# Altium schematic symbol library ADAM LIBRARY.SCHLIB: 89 symbols (part 2 of 2)
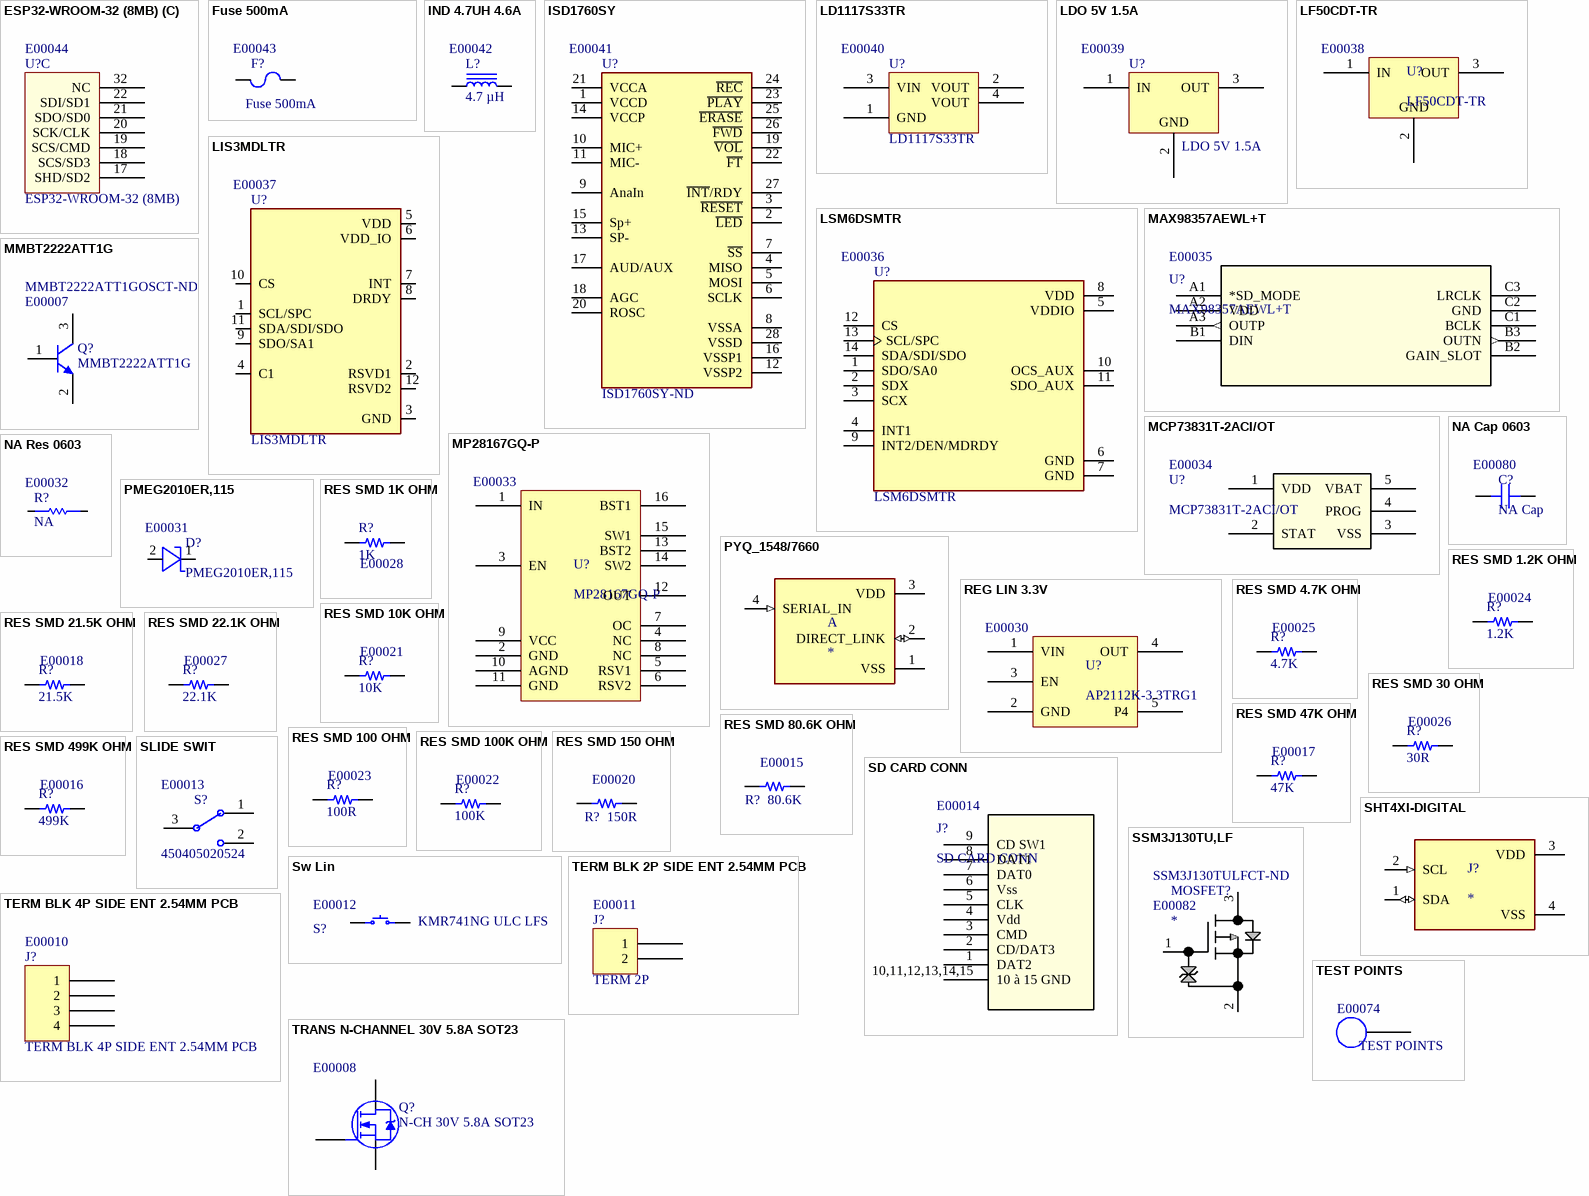
[diagram p3: symbols ESP32-WROOM-32 (8MB) to TRANS N-CHANNEL 30V 5.8A SOT23]

## RES SMD 10K OHM
designator R?, comment ADAM Inventory Number 1: E00021  (hidden comment: 10K)
RES SMD 10K OHM 1% 1/10W 0603; Manufacturer Part Number 1: RC0603FR-0710KL; Manufacturer: Rohm Semiconductor; Power (Watts): 0.25W, 1/4W; Temperature Coefficient: ±100ppm/°C; ComponentLink1Description: Datasheet; ComponentLink1URL: https://www.rohm.com/datasheet/ESR01MZPF/esr-e; ComponentLink2Description: DigiKey Link; ComponentLink2URL: https://www.digikey.com/en/products/detail/rohm-semiconductor/ESR03EZPF1002/1983429; Composition: Thick Film; Device Package: 0603 (1608 Metric); Features: Automotive AEC-Q200, Pulse Withstanding; Height - Seated (Max): 0.022" (0.55mm); LastUpdated: 2023-03-27 19:26:49; Lifecycle Status: Active; Minimum Order: 1; Number of Terminations: 2; Operating Temperature: -55°C ~ 155°C; Package / Case: 0603 (1608 Metric); Packaging: TapeAndReel; PartId: 5466; Part Status: Active; Price: 0.02; Ratings: AEC-Q200; Resistance: 10K; Series: ESR; Size / Dimension: 0.063" L x 0.031" W (1.60mm x 0.80mm); Supplier Device Package: 0603; Tolerance: ±1%; Supplier 1: Future Electronics; Supplier Part Number 1: 3349388; Value: 10K
footprint RES 0603
pins: 1, 2

## RES SMD 21.5K OHM
designator R?, comment ADAM Inventory Number 1: E00018  (hidden comment: 21.5K)
RES SMD 21.5K OHM 0.1% 1/5W 0603; Manufacturer: Panasonic Electronic Components; Manufacturer Part Number 1: CRCW0603321K5FKEA; Power (Watts): 0.2W, 1/5W; Temperature Coefficient: ±50ppm/°C; ComponentLink1Description: Datasheet; ComponentLink1URL: https://industrial.panasonic.com/cdbs/www-data/pdf/RDM0000/AOA0000C328.pdf; ComponentLink2Description: DigiKey Link; ComponentLink2URL: https://www.digikey.com/en/products/detail/panasonic-electronic-components/ERJ-PB3B2152V/6212904; Composition: Thick Film; Device Package: 0603 (1608 Metric); Features: Automotive AEC-Q200, Pulse Withstanding; Height - Seated (Max): 0.022" (0.55mm); LastUpdated: 2023-04-09 19:29:59; Lifecycle Status: Active; Minimum Order: 1; Number of Terminations: 2; Operating Temperature: -55°C ~ 155°C; Package / Case: 0603 (1608 Metric); Packaging: TapeAndReel; PartId: 9207; Part Status: Active; Price: 0.02; Ratings: AEC-Q200; Resistance: 21.5K; Series: ERJ-PB3; Size / Dimension: 0.063" L x 0.031" W (1.60mm x 0.80mm); Supplier Device Package: 0603; Tolerance: ±0.1%; Supplier 1: Mouser; Supplier Part Number 1: 71-CRCW0603-21.5K-E3; Value: 21.5K
footprint RES 0603
pins: 1, 2

## RES SMD 22.1K OHM
designator R?, comment ADAM Inventory Number 1: E00027  (hidden comment: 22.1K)
RES 22.1K OHM 1% 1/10W 0603; Manufacturer Part Number 1: RMCF0603FT22K1; Manufacturer: Stackpole Electronics Inc; Power (Watts): 0.1W, 1/10W; Temperature Coefficient: ±100ppm/°C; ComponentLink1Description: Datasheet; ComponentLink1URL: https://www.seielect.com/catalog/sei-rmcf_rmcp.pdf; ComponentLink2Description: DigiKey Link; ComponentLink2URL: https://www.digikey.com/en/products/detail/stackpole-electronics-inc/RMCF0603FT22K1/1760764; Composition: Thick Film; Device Package: 0603 (1608 Metric); Features: Automotive AEC-Q200; Height - Seated (Max): 0.022" (0.55mm); LastUpdated: 2023-03-27 19:26:47; Lifecycle Status: Active; Minimum Order: 1; Number of Terminations: 2; Operating Temperature: -55°C ~ 155°C; Package / Case: 0603 (1608 Metric); Packaging: CutTape; PartId: 6076; Part Status: Active; Price: 0.01; Ratings: AEC-Q200; Resistance: 22.1K; Series: RMCF; Size / Dimension: 0.061" L x 0.031" W (1.55mm x 0.80mm); Supplier 1: DigiKey; Supplier Part Number 1: RMCF0603FT22K1CT-ND; Supplier Device Package: 0603; Tolerance: ±1%; Value: 22.1K
footprint RES 0603
pins: 1, 2

## RES SMD 30 OHM
designator R?, comment ADAM Inventory Number 1: E00026  (hidden comment: 30R)
RES 30 OHM 1% 1/3W 0603; Manufacturer Part Number 1: SG73P1JTTD30R0F; Manufacturer: KOA Speer Electronics, Inc.; Power (Watts): 0.333W, 1/3W; Temperature Coefficient: ±200ppm/°C; ComponentLink1Description: Datasheet; ComponentLink1URL: https://www.koaspeer.com/pdfs/SG73P.pdf; ComponentLink2Description: DigiKey Link; ComponentLink2URL: https://www.digikey.com/en/products/detail/koa-speer-electronics-inc/SG73P1JTTD30R0F/10188343; Composition: Thick Film; Device Package: 0603 (1608 Metric); Features: Automotive AEC-Q200, Pulse Withstanding; Height - Seated (Max): 0.022" (0.55mm); LastUpdated: 2023-04-03 19:29:12; Lifecycle Status: Active; Minimum Order: 1; Number of Terminations: 2; Operating Temperature: -55°C ~ 155°C; Package / Case: 0603 (1608 Metric); Packaging: TapeAndReel; PartId: 62768; Part Status: Active; Price: 0.01; Ratings: AEC-Q200; Resistance: 30R; Series: SG73P; Size / Dimension: 0.063" L x 0.031" W (1.60mm x 0.80mm); Supplier 1: DigiKey; Supplier Part Number 1: 2019-SG73P1JTTD30R0FCT-ND; Supplier Device Package: 0603; Tolerance: ±1%; Value: 30R
footprint RES 0603
pins: 1, 2

## RES SMD 47K OHM
designator R?, comment ADAM Inventory Number 1: E00017  (hidden comment: 47K)
RES SMD 47K OHM 5% 1/4W 0603; Manufacturer Part Number 1: AC0603FR-0747KL; Manufacturer: Vishay Dale; Power (Watts): 0.25W, 1/4W; Temperature Coefficient: ±200ppm/°C; ComponentLink1Description: Datasheet; ComponentLink1URL: http://www.vishay.com/docs/20065/rcse3.pdf; ComponentLink2Description: DigiKey Link; ComponentLink2URL: https://www.digikey.com/en/products/detail/vishay-dale/RCS060347K0JNEA/5866965; Composition: Thick Film; Device Package: 0603 (1608 Metric); Features: Automotive AEC-Q200, Pulse Withstanding; Height - Seated (Max): 0.020" (0.50mm); LastUpdated: 2023-03-27 19:26:49; Lifecycle Status: Active; Minimum Order: 1; Number of Terminations: 2; Operating Temperature: -55°C ~ 155°C; Package / Case: 0603 (1608 Metric); Packaging: TapeAndReel; PartId: 5445; Part Status: Active; Price: 0.02; Ratings: AEC-Q200; Resistance: 47K; Series: RCS e3; Size / Dimension: 0.061" L x 0.033" W (1.55mm x 0.85mm); Supplier Device Package: 0603; Tolerance: ±5%; Supplier 1: Future Electronics; Supplier Part Number 1: 8029293; Value: 47K
footprint RES 0603
pins: 1, 2

## RES SMD 80.6K OHM
designator R?, comment ADAM Inventory Number 1: E00015  (hidden comment: 80.6K)
RES SMD 80.6K OHM 1% 1/4W 0603; Manufacturer Part Number 1: ERJ-3EKF8062V; Manufacturer: Vishay Dale; Power (Watts): 0.25W, 1/4W; Temperature Coefficient: ±100ppm/°C; ComponentLink1Description: Datasheet; ComponentLink1URL: https://www.vishay.com/docs/20065/rcse3.pdf; ComponentLink2Description: DigiKey Link; ComponentLink2URL: https://www.digikey.com/en/products/detail/vishay-dale/RCS060380K6FKEA/5868691; Composition: Thick Film; Device Package: 0603 (1608 Metric); Features: Automotive AEC-Q200, Pulse Withstanding; Height - Seated (Max): 0.020" (0.50mm); LastUpdated: 2023-04-04 19:27:58; Lifecycle Status: Active; Minimum Order: 1; Number of Terminations: 2; Operating Temperature: -55°C ~ 155°C; Package / Case: 0603 (1608 Metric); Packaging: TapeAndReel; PartId: 62631; Part Status: Active; Price: 0.02; Ratings: AEC-Q200; Resistance: 80.6K; Series: RCS e3; Size / Dimension: 0.061" L x 0.033" W (1.55mm x 0.85mm); Supplier Device Package: 0603; Tolerance: ±1%; Supplier 1: Newark; Supplier Part Number 1: 63W0948; Value: 80.6K
footprint RES 0603
pins: 1, 2

## RES SMD 100 OHM
designator R?, comment ADAM Inventory Number 1: E00023  (hidden comment: 100R)
RESISTOR 100 Ohm SMD 1% 1/10W; Manufacturer Part Number 1: AC0603FR-10100RL; Manufacturer: Yageo; Power (Watts): 0.1W, 1/10W; Temperature Coefficient: ±100ppm/°C; ComponentLink1Description: Datasheet; ComponentLink1URL: https://www.yageo.com/upload/media/product/productsearch/datasheet/rchip/PYu-AC_51_RoHS_L_8.pdf; ComponentLink2Description: DigiKey Link; ComponentLink2URL: https://www.digikey.com/en/products/detail/yageo/AC0603FR-10100RL/14286596; Composition: Thick Film; Device Package: 0603 (1608 Metric); Features: Automotive AEC-Q200; Height - Seated (Max): 0.022" (0.55mm); LastUpdated: 2023-04-09 19:28:34; Lifecycle Status: Active; Minimum Order: 1; Number of Terminations: 2; Operating Temperature: -55°C ~ 155°C; Package / Case: 0603 (1608 Metric); Packaging: CutTape; PartId: 64201; Part Status: Active; Price: 0.01; Ratings: AEC-Q200; Resistance: 100R; Series: AC; Size / Dimension: 0.063" L x 0.031" W (1.60mm x 0.80mm); Supplier 1: DigiKey; Supplier Part Number 1: 13-AC0603FR-10100RLCT-ND; Supplier Device Package: 0603; Tolerance: ±1%; Value: 100R
footprint RES 0603
pins: 1, 2

## RES SMD 100K OHM
designator R?, comment ADAM Inventory Number 1: E00022  (hidden comment: 100K)
RES SMD 100K OHM 1% 1/4W 0603; Manufacturer Part Number 1: RC0603FR-07100KL; Manufacturer: Vishay Dale; Power (Watts): 0.25W, 1/4W; Temperature Coefficient: ±100ppm/°C; ComponentLink1Description: Datasheet; ComponentLink1URL: http://www.vishay.com/docs/20065/rcse3.pdf; ComponentLink2Description: DigiKey Link; ComponentLink2URL: https://www.digikey.com/en/products/detail/vishay-dale/RCS0603100KFKEA/5866946; Composition: Thick Film; Device Package: 0603 (1608 Metric); Features: Automotive AEC-Q200, Pulse Withstanding; Height - Seated (Max): 0.020" (0.50mm); LastUpdated: 2023-03-27 19:26:49; Lifecycle Status: Active; Minimum Order: 1; Number of Terminations: 2; Operating Temperature: -55°C ~ 155°C; Package / Case: 0603 (1608 Metric); Packaging: TapeAndReel; PartId: 5363; Part Status: Active; Price: 0.02; Ratings: AEC-Q200; Resistance: 100K; Series: RCS e3; Size / Dimension: 0.061" L x 0.033" W (1.55mm x 0.85mm); Supplier Device Package: 0603; Tolerance: ±1%; Supplier 1: Future Electronics; Supplier Part Number 1: 3697448; Value: 100K
footprint RES 0603
pins: 1, 2

## RES SMD 150 OHM
designator R?, comment ADAM Inventory Number 1: E00020  (hidden comment: 150R)
RES SMD 150 OHM 0.1% 1/8W 0603; Manufacturer Part Number 1: RC0603FR-07150RL; Manufacturer: Vishay Beyschlag; Power (Watts): 0.125W, 1/8W; Temperature Coefficient: ±25ppm/°C; ComponentLink1Description: Datasheet; ComponentLink1URL: http://www.vishay.com/docs/28785/mcat_pre.pdf; ComponentLink2Description: DigiKey Link; ComponentLink2URL: http://digikey.com/product-detail/en/vishay-beyschlag/MCT0603MD1500BP100/MCT0603-150-MBCT-ND/2092134; Composition: Thin Film; Device Package: 0603 (1608 Metric); Features: Anti-Sulfur, Automotive AEC-Q200; Height - Seated (Max): 0.022" (0.55mm); LastUpdated: 2023-04-04 19:29:46; Lifecycle Status: Active; Minimum Order: 1; Number of Terminations: 2; Operating Temperature: -55°C ~ 155°C; Package / Case: 0603 (1608 Metric); Packaging: TapeAndReel; PartId: 5246; Part Status: Active; Price: 0.23; Ratings: AEC-Q200; Resistance: 150R; Series: MCT AT - Precision; Size / Dimension: 0.061" L x 0.033" W (1.55mm x 0.85mm); Supplier Device Package: 0603; Tolerance: ±0.1%; Supplier 1: Future Electronics; Supplier Part Number 1: 1201284; Value: 150R
footprint RES 0603
pins: 1, 2

## RES SMD 499K OHM
designator R?, comment ADAM Inventory Number 1: E00016  (hidden comment: 499K)
RES SMD 499K OHM 1% 1/4W 0603; Manufacturer: Vishay Dale; Manufacturer Part Number 1: RC0603FR-07499KL; Power (Watts): 0.25W, 1/4W; Temperature Coefficient: ±100ppm/°C; ComponentLink1Description: Datasheet; ComponentLink1URL: http://www.vishay.com/docs/20043/crcwhpe3.pdf; ComponentLink2Description: DigiKey Link; ComponentLink2URL: http://digikey.com/product-detail/en/vishay-dale/CRCW0603499KFKEAHP/541-499KSCT-ND/5326850; Composition: Thick Film; Device Package: 0603 (1608 Metric); Features: Automotive AEC-Q200, Pulse Withstanding; Height - Seated (Max): 0.022" (0.55mm); LastUpdated: 2023-04-09 19:29:36; Lifecycle Status: Active; Minimum Order: 1; Number of Terminations: 2; Operating Temperature: -55°C ~ 155°C; Package / Case: 0603 (1608 Metric); Packaging: TapeAndReel; PartId: 14787; Part Status: Active; Price: 0.02; Ratings: AEC-Q200; Resistance: 499K; Series: CRCW-HP; Size / Dimension: 0.063" L x 0.033" W (1.60mm x 0.85mm); Supplier Device Package: 0603; Tolerance: ±1%; Supplier 1: Future Electronics; Supplier Part Number 1: 1580604; Value: 499K
footprint RES 0603
pins: 1, 2

## SD CARD CONN
designator J?  ADAM Inventory Number 1: E00014
SD CARD READER CONN; Mfr_Name: Wurth Electronics; Manufacturer Part Number 1: 693071020811; Copyright: Copyright (C) 2023 Ultra Librarian. All rights reserved.; RefDes: RefDes; Type: DEV; Supplier 1: Digi-Key; Supplier Part Number 1: 732-693071020811CT-ND
footprint CONN9_020811_WRE
pins: 1 DAT2, 2 CD/DAT3, 3 CMD, 4 Vdd, 5 CLK, 6 Vss, 7 DAT0, 8 DAT1, 9 CD SW1, 10,11,12,13,14,15 10 à 15 GND

## SHT4XI-DIGITAL
designator J?
Industrial Grade Digital Relative Humidity Temperature Sensor, Â±2% / max 4% RH, Â±0.2 Â°C; MP: SHT40I-AD1B-R3; MF: Sensirion; Value: *; Package: DFN-4 Sensirion; Check_prices: https://www.snapeda.com/parts/SHT40I-AD1B-R3/Sensirion/view-part/?ref=eda; Price: None; SnapEDA_Link: https://www.snapeda.com/parts/SHT40I-AD1B-R3/Sensirion/view-part/?ref=snap; Purchase-URL: https://pricing.snapeda.com/search/part/SHT40I-AD1B-R3/?ref=eda; Availability: In Stock
footprint SHT4XI-DIGITAL
pins: 1 SDA (io), 2 SCL (in), 3 VDD (power), 4 VSS (power)

## SLIDE SWIT
designator S?, comment 450405020524  ADAM Inventory Number 1: E00013
SMT 8.7 X 3.0 MM MINI SLIDE SWIT; Manufacturer: Würth Elektronik; Rated Current: 300mA; Rated Voltage: 5VDC; Switching Function: On-On; Circuit: SPDT; Actuator Length: 2.00mm; Actuator Type: Standard; Contact Timing: Non-Shorting (BBM); Current Rating (Amps): 300mA (DC); Voltage Rating - DC: 5 V; ComponentLink1Description: Datasheet; ComponentLink1URL: https://www.we-online.com/catalog/datasheet/450405020524.pdf; ComponentLink2Description: DigiKey Link; ComponentLink2URL: https://www.digikey.com/en/products/detail/würth-elektronik/450405020524/11627297; Packaging: TapeAndReel; Publisher: Wurth Elektronik; Contact Material: Copper Alloy; Mounting Technology: SMT; Operating Temperature: -40°C ~ 85°C; Contact Plating: Silver; Manufacturer Part Number 1: 450405020524; Published Date: November 2019; Terminal Material: Copper Alloy; Size: 8.7x3mm; Terminal Plating: Silver; Contact Finish: Silver; LastUpdated: 2022-06-20 13:21:27; Lifecycle Status: Active; Minimum Order: 1; Mounting Type: Surface Mount; PartId: 4; Part Status: Active; Price: 0.73; Series: WS-SLSU; Supplier 1: DigiKey; Supplier Part Number 1: 732-450405020524CT-ND; Switch Function: On-On; Termination Style: SMD (SMT) Tab
footprint SL 3Pos Switch (Sliding 3 pos switch)
pins: 1, 2, 3 COM

## SSM3J130TU,LF
designator MOSFET?  ADAM Inventory Part Number: E00082  Supplier Part Number 1: SSM3J130TULFCT-ND
No Description Available; Mfr_Name: Toshiba Electronic Devices & Storage Corp.; Manufacturer Part Number 1: SSM3J130TU; RefDes: Refdes; Type: Type; Supplier 1: Digi-Key
footprint UFM_TOS
pins: 1, 2, 3

## Sw Lin
designator S?, comment KMR741NG ULC LFS  ADAM Inventory Number 1: E00012
SWITCH TACTILE SPST-NO 50MA 32V; Manufacturer: C&K; Actuator Height off PCB, Vertical: 2.50mm; Actuator Orientation: Top Actuated; Actuator Type: Standard; Contact Rating @ Voltage: 0.05A @ 32VDC; Illumination: Non-Illuminated; Ingress Protection: IP67 - Dust Tight, Waterproof; Operating Force: 400gf; Outline: 4.20mm x 2.80mm; Switch Function: Off-Mom; Manufacturer Part Number 1: KMR741NG ULC LFS; Circuit: SPST-NO; ComponentLink1Description: Datasheet; ComponentLink1URL: https://dznh3ojzb2azq.cloudfront.net/products/Tactile/KMR7/documents/datasheet.pdf; ComponentLink2Description: DigiKey Link; ComponentLink2URL: http://digikey.com/product-detail/en/c-k/KMR741NG-ULC-LFS/CKN10688CT-ND/6035360; LastUpdated: 2020-04-09 10:01:05; Lifecycle Status: Active; Minimum Order: 1; Mounting Type: Surface Mount; Operating Temperature: -40°C ~ 85°C; Packaging: TapeAndReel; Part Status: Active; Price: 0.16; Series: KMR7; Supplier 1: DigiKey; Supplier Part Number 1: CKN10688CT-ND; Termination Style: Gull Wing
footprint Switch Lin SMD
pins: 1, 1, 2, 2, 3, 3, 4, 4

## TERM BLK 2P SIDE ENT 2.54MM PCB
designator J?, comment TERM 2P  ADAM Inventory Number 1: E00011
TERM BLK 2P SIDE ENT 2.54MM PCB; Manufacturer Part Number 1: 282834-2; Manufacturer: TE Connectivity AMP Connectors; Current: 10A; Mating Orientation: Horizontal with Board; Number of Levels: 1; Pitch: 0.100" (2.54mm); Positions Per Level: 2; Voltage: 150V; Wire Gauge: 16-30 AWG; Wire Termination: Screw - Rising Cage Clamp; Color: Green; ComponentLink1Description: Datasheet; ComponentLink1URL: https://www.te.com/commerce/DocumentDelivery/DDEController?Action=srchrtrv&DocNm=282834&DocType=Customer+Drawing&DocLang=English; ComponentLink2Description: DigiKey Link; ComponentLink2URL: http://digikey.com/product-detail/en/te-connectivity-amp-connectors/282834-2/A98333-ND/1150135; LastUpdated: 2020-01-15 04:15:38; Lifecycle Status: Active; Minimum Order: 1; Mounting Type: Through Hole; Packaging: Bulk; Part Status: Active; Price: 0.88; Series: Buchanan; Supplier 1: DigiKey; Supplier Part Number 1: A98333-ND
footprint TERM BLOC 2P
pins: 1, 2

## TERM BLK 4P SIDE ENT 2.54MM PCB
designator J?  ADAM Inventory Number 1: E00010
Manufacturer Part Number 1: 282834-4; Manufacturer: TE Connectivity AMP Connectors; Current: 10A; Mating Orientation: Horizontal with Board; Number of Levels: 1; Pitch: 0.100" (2.54mm); Positions Per Level: 4; Voltage: 150V; Wire Gauge: 16-30 AWG; Wire Termination: Screw - Rising Cage Clamp; Color: Green; ComponentLink1Description: Datasheet; ComponentLink1URL: https://www.te.com/commerce/DocumentDelivery/DDEController?Action=srchrtrv&DocNm=282834&DocType=Customer+Drawing&DocLang=English; ComponentLink2Description: DigiKey Link; ComponentLink2URL: http://digikey.com/product-detail/en/te-connectivity-amp-connectors/282834-4/A98335-ND/1153265; LastUpdated: 2020-01-15 04:16:05; Lifecycle Status: Active; Minimum Order: 1; Mounting Type: Through Hole; Packaging: Bulk; Part Status: Active; Price: 2.68; Series: Buchanan; Supplier 1: DigiKey; Supplier Part Number 1: A98335-ND
footprint TERM BLOC 4P
pins: 1, 2, 3, 4

## TEST POINTS
designator T?  ADAM Inventory Number 1: E00074
RCWCTE TEST POINTS; Manufacturer Part Number 1: RCWCTE
footprint TEST POINTS
pins: 1

## TRANS N-CHANNEL 30V 5.8A SOT23
designator Q?, comment N-CH 30V 5.8A SOT23  ADAM Inventory Number 1: E00008
N-Channel 5.8A (Tj) 350mW Surface Mount SOT-23; Manufacturer: MCC; Manufacturer Part Number 1: SI3404-TP; Source: IC_Component.SchLib; Design Item ID: TRANS N-CHANNEL 30V 5.8A SOT23; Component Type: Transistors; Supplier 1: Digi-Key; Supplier Part Number 1: DMN3051LDICT-ND
footprint N-CHANNEL TRANS
pins: 1 G, 2 S, 3 D

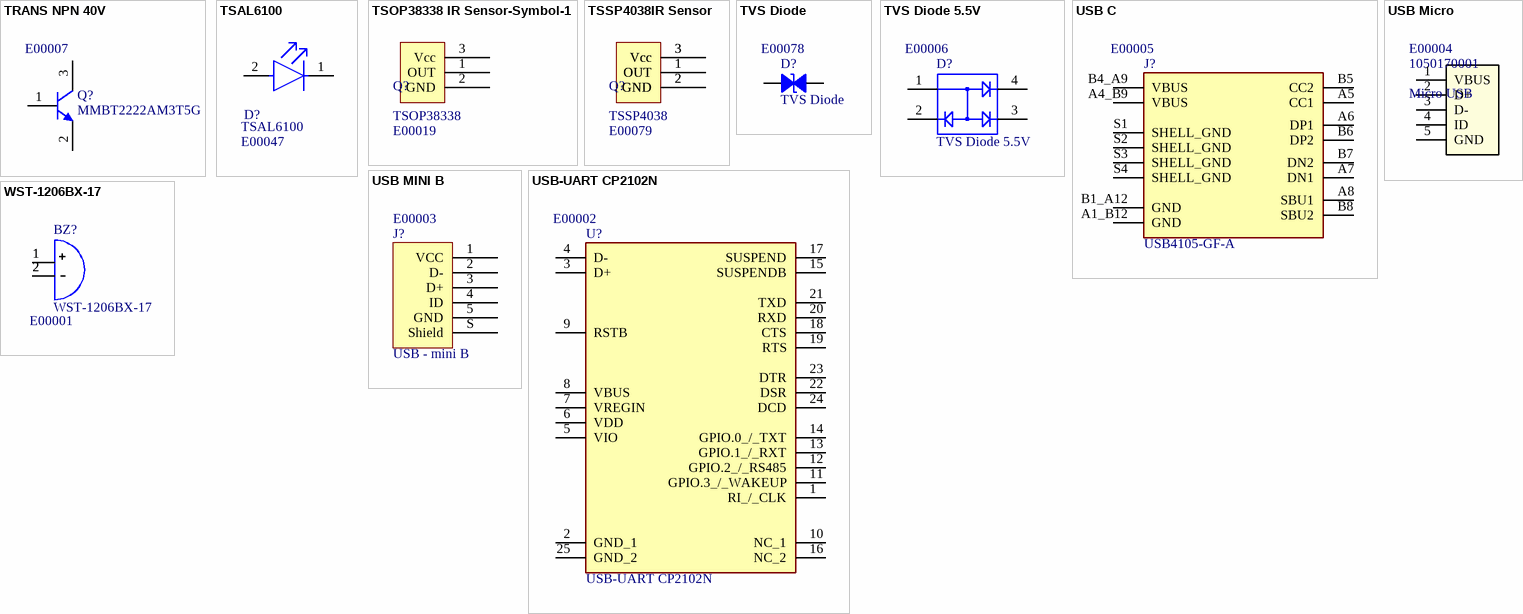
[diagram p2: symbols TRANS NPN 40V to WST-1206BX-17]

## TRANS NPN 40V
designator Q?, comment MMBT2222AM3T5G  ADAM Inventory Number 1: E00007
TRANS NPN 40V 0.6A SOT-723; Manufacturer: ON Semiconductor; Current - Collector Cutoff (Max): 10nA (ICBO); Current - Collector (Ic) (Max): 600mA; DC Current Gain (hFE) (Min) @ Ic, Vce: 100 @ 150mA, 10V; Frequency - Transition: 300MHz; Power - Max: 640mW; Vce Saturation (Max) @ Ib, Ic: 1V @ 50mA, 500mA; Manufacturer Part Number 1: MMBT2222AM3T5G; ComponentLink1Description: Datasheet; ComponentLink1URL: http://www.onsemi.com/pub/Collateral/MMBT2222AM3-D.PDF; ComponentLink2Description: DigiKey Link; ComponentLink2URL: http://digikey.com/product-detail/en/on-semiconductor/MMBT2222AM3T5G/MMBT2222AM3T5GOSCT-ND/3487571; LastUpdated: 2023-03-28 20:16:11; Lifecycle Status: Active; Minimum Order: 1; Mounting Type: Surface Mount; Operating Temperature: -55°C ~ 150°C (TJ); Package / Case: SOT-723; Packaging: TapeAndReel; PartId: 22; Part Status: Active; Price: 0.03; Series: -; Supplier 1: DigiKey; Supplier Part Number 1: MMBT2222AM3T5GOSCT-ND; Supplier Device Package: SOT-723; Transistor Type: NPN; Voltage - Collector Emitter Breakdown (Max): 40V
footprint SOT-723 (For resistance NPN)
pins: 1 B, 2 E, 3 C

## TSAL6100
designator D?  ADAM Inventory Number 1: E00047  (hidden comment: TSAL6100)
Infrared (IR) Emitter 940nm 1.35V 100mA 80mW/sr @ 100mA 20° Radial, 5mm Dia (T 1 3/4); Manufacturer Part Number 1: TSAL6100
footprint IR TRANSMITTER
pins: 1 C, 2 A

## TSOP38338 IR Sensor-Symbol-1
designator Q?, comment TSOP38338  ADAM Inventory Number 1: E00019
Remote Receiver Sensor 38.0kHz 45m Through Hole; Supplier 1: Digi-Key; Supplier Part Number 1: 751-1388-ND; Manufacturer Part Number 1: TSOP38338
footprint IR Receptor
pins: 1 OUT, 2 GND, 3 Vcc

## TSSP4038IR Sensor
designator Q?, comment TSSP4038  ADAM Inventory Number 1: E00079
Remote Receiver Sensor 38.0kHz 45m Through Hole; Manufacturer Part Number 1: TSSP4038; Supplier 1: Digi-Key; Supplier Part Number 1: TSSP4038-ND
footprint IR Receptor
pins: 1 OUT, 1 OUT, 2 GND, 2 GND, 3 Vcc, 3 Vcc

## TVS Diode
designator D?  ADAM Inventory Number 1: E00078
TVS DIODE 30.8V 49.9V DO214AC; Manufacturer Part Number 1: P4SMA36CA R3G; Manufacturer: Taiwan Semiconductor Corporation; Bidirectional Channels: 1; Current - Peak Pulse (10/1000µs): 8.4A; Power Line Protection: No; Power - Peak Pulse: 400W; Type: Zener; Voltage - Breakdown (Min): 34.2V; Applications: General Purpose; ComponentLink1Description: Datasheet; ComponentLink1URL: https://www.taiwansemi.com/products/datasheet/P4SMA%20SERIES_Q1705.pdf; ComponentLink2Description: DigiKey Link; ComponentLink2URL: http://digikey.com/product-detail/en/taiwan-semiconductor-corporation/P4SMA36CA-R3G/P4SMA36CAR3GCT-ND/7357928; LastUpdated: 2023-04-16 20:19:58; Lifecycle Status: Active; Minimum Order: 1; Mounting Type: Surface Mount; Operating Temperature: -55°C ~ 150°C (TJ); Package / Case: DO-214AC, SMA; Packaging: TapeAndReel; PartId: 7281; Part Status: Active; Price: 0.11; Series: P4SMA; Supplier 1: DigiKey; Supplier Part Number 1: P4SMA36CAR3GCT-ND; Supplier Device Package: DO-214AC (SMA); Voltage - Clamping (Max) @ Ipp: 49.9V; Voltage - Reverse Standoff (Typ): 30.8V
footprint TVS DIODE
pins: 1, 2

## TVS Diode 5.5V
designator D?  ADAM Inventory Number 1: E00006
8.5V Clamp Ipp Tvs Diode Surface Mount SOT-143-4; Manufacturer Part Number 1: SP0503BAHTG; Manufacturer: Littelfuse; Component Type: Diodes
footprint TVS 5.5 DIODE (TVS diode)
pins: 1, 2, 3, 4

## USB C
designator J?, comment USB4105-GF-A  ADAM Inventory Number 1: E00005
USB-C (USB TYPE-C) USB 2.0 Receptacle Connector 24 (16+8 Dummy) Position Surface Mount, Right Angle; Through Hole; Manufacturer Part Number 1: USB4105-GF-A; Supplier 1: Newark; Supplier Part Number 1: 86AH2021
footprint USB C HORIZONTAL (USB C 16 pins)
pins: A1_B12 GND, A4_B9 VBUS, A5 CC1, A6 DP1, A7 DN1, A8 SBU1, B1_A12 GND, B4_A9 VBUS, B5 CC2, B6 DP2, B7 DN2, B8 SBU2, S1 SHELL_GND, S2 SHELL_GND, S3 SHELL_GND, S4 SHELL_GND

## USB Micro
designator 1050170001, comment Micro USB  ADAM Inventory Number 1: E00004
USB micro connecteur TH; Mfr_Name: Molex Connector Corporation; Manufacturer Part Number 1: 1050170001; Copyright: Copyright (C) 2023 Ultra Librarian. All rights reserved.; RefDes: RefDes; Type: DEV; Supplier 1: Digi-Key; Supplier Part Number 1: WM1399CT-ND
footprint CONN_1050170001_MOL
pins: 1 VBUS, 2 D+, 3 D-, 4 ID, 5 GND

## USB MINI B
designator J?, comment USB - mini B  ADAM Inventory Number 1: E00003
CONN RCPT MINI USB B 5POS SMD RA; Manufacturer: Amphenol ICC (FCI); Manufacturer Part Number 1: 10033526-N3212LF; Current Rating (Amps): 1A per Contact; Gender: Receptacle; Mating Cycles: 5000; Number of Contacts: 5; Number of Ports: 1; Shielding: Shielded; Voltage - Rated: 30V; ComponentLink1Description: Datasheet; ComponentLink1URL: http://www.amphenol-icc.com/media/wysiwyg/files/drawing/10033526.pdf; ComponentLink2Description: DigiKey Link; ComponentLink2URL: //digikey.com/product-detail/en/amphenol-icc-fci/10033526-N3212LF/609-4700-2-ND/4292074; Connector Type: USB - mini B; Features: Board Guide, Solder Retention; LastUpdated: 2019-12-09 20:52:14; Lifecycle Status: 0; Minimum Order: 1; Mounting Feature: Horizontal; Mounting Type: Surface Mount, Right Angle; Operating Temperature: -25°C ~ 85°C; Packaging: TapeAndReel; Part Status: Active; Price: 0.39; Series: -; Supplier 1: DigiKey; Supplier Part Number 1: 609-4700-2-ND; Termination: Solder
footprint USB B Horizontal
pins: 1 VCC, 2 D-, 3 D+, 4 ID, 5 GND, S Shield

## USB-UART CP2102N
designator U?  ADAM Inventory Number 1: E00002
USB Interface IC USBXpress - USB to UART Bridge QFN24; Manufacturer Part Number 1: CP2102N-A02-GQFN24; Manufacturer: Silicon Labs; Component Type: Interface; Supplier 1: Digi-Key; Supplier Part Number 1: 336-5888-1-ND
footprint CP2102N-USB-UART (USB TO UART)
pins: 1 RI_/_CLK, 2 GND_1, 3 D+, 4 D-, 5 VIO, 6 VDD, 7 VREGIN, 8 VBUS, 9 RSTB, 10 NC_1, 11 GPIO.3_/_WAKEUP, 12 GPIO.2_/_RS485, 13 GPIO.1_/_RXT, 14 GPIO.0_/_TXT, 15 SUSPENDB, 16 NC_2, 17 SUSPEND, 18 CTS, 19 RTS, 20 RXD, 21 TXD, 22 DSR, 23 DTR, 24 DCD, 25 GND_2

## WST-1206BX-17
designator BZ?  ADAM Inventory Number 1: E00001
Buzzers Indicator, Internally Driven Magnetic 5 V 30mA 3.1kHz 83dB @ 5V, 10cm Through Hole PC Pins; Supplier 1: Digi-Key; Manufacturer Part Number 1: WST-1206BX-17; Supplier Part Number 1: 433-1081-ND
footprint BUZZ WST-1206BX (Buss WST 1206BX)
pins: 1, 1, 2, 2